# Altium footprint library DISCRETE_T1.PcbLib: 293 footprints (part 6 of 19)
Each footprint in its own frame and in the unit in brackets; x right, y up, seen from the top. Pads: shape width x height; smd on the part's side, far side on the other; paste and mask are expansions set on the pad; w line width, h text height; cw(c..) or ccw(c..) is an arc to the next point about the centre after c.
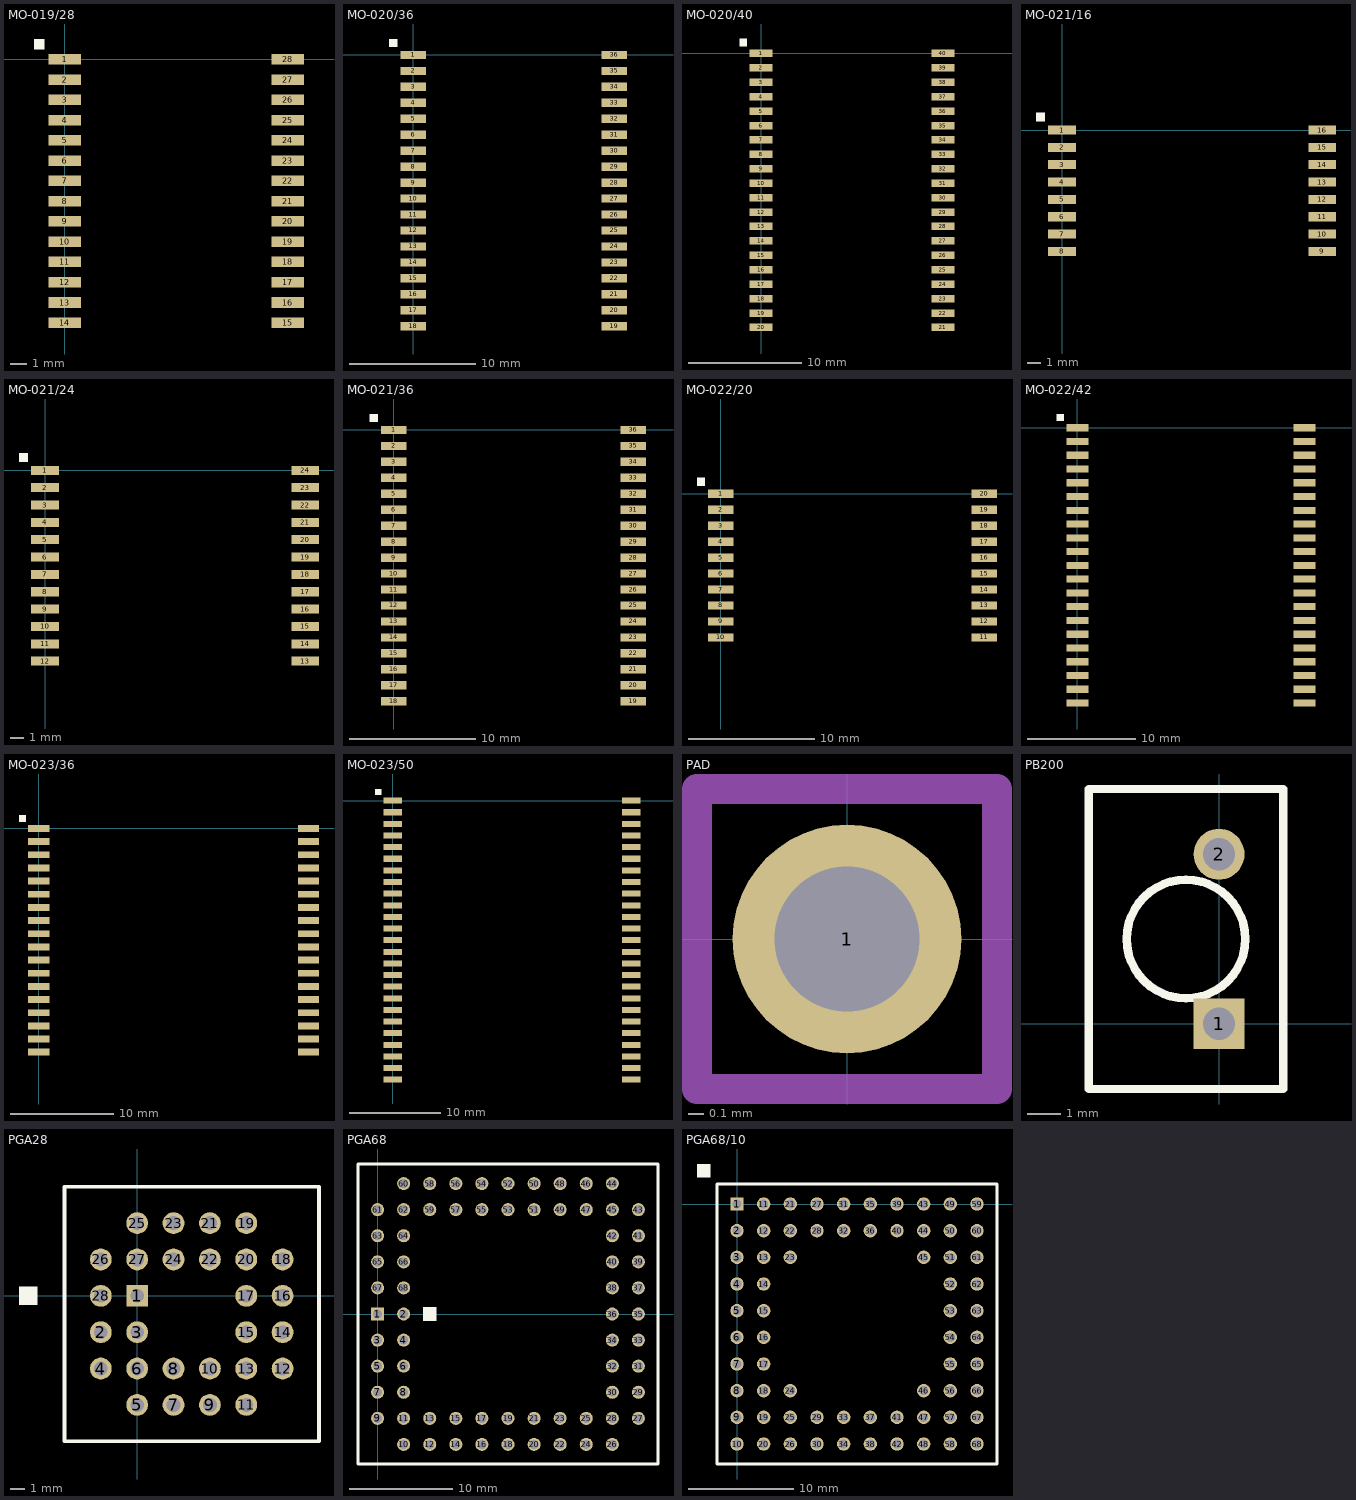
[diagram p5: the footprints below, top view; thin cyan lines are the x and y axes]

## MO-019/28 [mil]
pads (28):
  rect 80x26 smd: 1(0,0) 2(0,-50) 3(0,-100) 4(0,-150) 5(0,-200) 6(0,-250) 7(0,-300) 8(0,-350) 9(0,-400) 10(0,-450) 11(0,-500) 12(0,-550) 13(0,-600) 14(0,-650) 15(550,-650) 16(550,-600) 17(550,-550) 18(550,-500) 19(550,-450) 20(550,-400) 21(550,-350) 22(550,-300) 23(550,-250) 24(550,-200) 25(550,-150) 26(550,-100) 27(550,-50) 28(550,0)
Top Overlay:
  region: -75,25 -50,25 -50,50 -75,50

## MO-020/36 [mil]
pads (36):
  rect 80x26 smd: 1(0,0) 2(0,-50) 3(0,-100) 4(0,-150) 5(0,-200) 6(0,-250) 7(0,-300) 8(0,-350) 9(0,-400) 10(0,-450) 11(0,-500) 12(0,-550) 13(0,-600) 14(0,-650) 15(0,-700) 16(0,-750) 17(0,-800) 18(0,-850) 19(630,-850) 20(630,-800) 21(630,-750) 22(630,-700) 23(630,-650) 24(630,-600) 25(630,-550) 26(630,-500) 27(630,-450) 28(630,-400) 29(630,-350) 30(630,-300) 31(630,-250) 32(630,-200) 33(630,-150) 34(630,-100) 35(630,-50) 36(630,0)
Top Overlay:
  region: -75,25 -50,25 -50,50 -75,50

## MO-020/40 [mil]
pads (40):
  rect 80x26 smd: 1(0,0) 2(0,-50) 3(0,-100) 4(0,-150) 5(0,-200) 6(0,-250) 7(0,-300) 8(0,-350) 9(0,-400) 10(0,-450) 11(0,-500) 12(0,-550) 13(0,-600) 14(0,-650) 15(0,-700) 16(0,-750) 17(0,-800) 18(0,-850) 19(0,-900) 20(0,-950) 21(630,-950) 22(630,-900) 23(630,-850) 24(630,-800) 25(630,-750) 26(630,-700) 27(630,-650) 28(630,-600) 29(630,-550) 30(630,-500) 31(630,-450) 32(630,-400) 33(630,-350) 34(630,-300) 35(630,-250) 36(630,-200) 37(630,-150) 38(630,-100) 39(630,-50) 40(630,0)
Top Overlay:
  region: -75,25 -50,25 -50,50 -75,50

## MO-021/16 [mil]
pads (16):
  rect 80x26 smd: 1(0,0) 2(0,-50) 3(0,-100) 4(0,-150) 5(0,-200) 6(0,-250) 7(0,-300) 8(0,-350) 9(750,-350) 10(750,-300) 11(750,-250) 12(750,-200) 13(750,-150) 14(750,-100) 15(750,-50) 16(750,0)
Top Overlay:
  region: -75,25 -50,25 -50,50 -75,50

## MO-021/24 [mil]
pads (24):
  rect 80x26 smd: 1(0,0) 2(0,-50) 3(0,-100) 4(0,-150) 5(0,-200) 6(0,-250) 7(0,-300) 8(0,-350) 9(0,-400) 10(0,-450) 11(0,-500) 12(0,-550) 13(750,-550) 14(750,-500) 15(750,-450) 16(750,-400) 17(750,-350) 18(750,-300) 19(750,-250) 20(750,-200) 21(750,-150) 22(750,-100) 23(750,-50) 24(750,0)
Top Overlay:
  region: -75,25 -50,25 -50,50 -75,50

## MO-021/36 [mil]
pads (36):
  rect 80x26 smd: 1(0,0) 2(0,-50) 3(0,-100) 4(0,-150) 5(0,-200) 6(0,-250) 7(0,-300) 8(0,-350) 9(0,-400) 10(0,-450) 11(0,-500) 12(0,-550) 13(0,-600) 14(0,-650) 15(0,-700) 16(0,-750) 17(0,-800) 18(0,-850) 19(750,-850) 20(750,-800) 21(750,-750) 22(750,-700) 23(750,-650) 24(750,-600) 25(750,-550) 26(750,-500) 27(750,-450) 28(750,-400) 29(750,-350) 30(750,-300) 31(750,-250) 32(750,-200) 33(750,-150) 34(750,-100) 35(750,-50) 36(750,0)
Top Overlay:
  region: -75,25 -50,25 -50,50 -75,50

## MO-022/20 [mil]
pads (20):
  rect 80x26 smd: 1(0,0) 2(0,-50) 3(0,-100) 4(0,-150) 5(0,-200) 6(0,-250) 7(0,-300) 8(0,-350) 9(0,-400) 10(0,-450) 11(825,-450) 12(825,-400) 13(825,-350) 14(825,-300) 15(825,-250) 16(825,-200) 17(825,-150) 18(825,-100) 19(825,-50) 20(825,0)
Top Overlay:
  region: -75,25 -50,25 -50,50 -75,50

## MO-022/42 [mil]
pads (42):
  rect 80x26 smd: 1(0,0) 2(0,-50) 3(0,-100) 4(0,-150) 5(0,-200) 6(0,-250) 7(0,-300) 8(0,-350) 9(0,-400) 10(0,-450) 11(0,-500) 12(0,-550) 13(0,-600) 14(0,-650) 15(0,-700) 16(0,-750) 17(0,-800) 18(0,-850) 19(0,-900) 20(0,-950) 21(0,-1000) 22(825,-1000) 23(825,-950) 24(825,-900) 25(825,-850) 26(825,-800) 27(825,-750) 28(825,-700) 29(825,-650) 30(825,-600) 31(825,-550) 32(825,-500) 33(825,-450) 34(825,-400) 35(825,-350) 36(825,-300) 37(825,-250) 38(825,-200) 39(825,-150) 40(825,-100) 41(825,-50) 42(825,0)
Top Overlay:
  region: -75,25 -50,25 -50,50 -75,50

## MO-023/36 [mil]
pads (36):
  rect 80x26 smd: 1(0,0) 2(0,-50) 3(0,-100) 4(0,-150) 5(0,-200) 6(0,-250) 7(0,-300) 8(0,-350) 9(0,-400) 10(0,-450) 11(0,-500) 12(0,-550) 13(0,-600) 14(0,-650) 15(0,-700) 16(0,-750) 17(0,-800) 18(0,-850) 19(1025,-850) 20(1025,-800) 21(1025,-750) 22(1025,-700) 23(1025,-650) 24(1025,-600) 25(1025,-550) 26(1025,-500) 27(1025,-450) 28(1025,-400) 29(1025,-350) 30(1025,-300) 31(1025,-250) 32(1025,-200) 33(1025,-150) 34(1025,-100) 35(1025,-50) 36(1025,0)
Top Overlay:
  region: -75,25 -50,25 -50,50 -75,50

## MO-023/50 [mil]
pads (50):
  rect 80x26 smd: 1(0,0) 2(0,-50) 3(0,-100) 4(0,-150) 5(0,-200) 6(0,-250) 7(0,-300) 8(0,-350) 9(0,-400) 10(0,-450) 11(0,-500) 12(0,-550) 13(0,-600) 14(0,-650) 15(0,-700) 16(0,-750) 17(0,-800) 18(0,-850) 19(0,-900) 20(0,-950) 21(0,-1000) 22(0,-1050) 23(0,-1100) 24(0,-1150) 25(0,-1200) 26(1025,-1200) 27(1025,-1150) 28(1025,-1100) 29(1025,-1050) 30(1025,-1000) 31(1025,-950) 32(1025,-900) 33(1025,-850) 34(1025,-800) 35(1025,-750) 36(1025,-700) 37(1025,-650) 38(1025,-600) 39(1025,-550) 40(1025,-500) 41(1025,-450) 42(1025,-400) 43(1025,-350) 44(1025,-300) 45(1025,-250) 46(1025,-200) 47(1025,-150) 48(1025,-100) 49(1025,-50) 50(1025,0)
Top Overlay:
  region: -75,25 -50,25 -50,50 -75,50

## PAD [mil]
pads (1):
  round 60 hole 38: 1(0,0)
Mechanical 1:
  lines w7.87: -39.37,-39.37 39.37,-39.37 39.37,39.37 -39.37,39.37 -39.37,-39.37

## PB200 [mil]
pads (2):
  rect 60x60 hole 38: 1(0,0)
  round 60 hole 38: 2(0,200)
Top Overlay:
  circle w10: c-39,100 r70
  lines w10: -154,-77 -154,277 76,277 76,-77 -154,-77

## PCBComponent_1 [mil]

## PGA28 [mil]
pads (28):
  rect 60x60 hole 38: 1(0,0)
  round 60 hole 38: 2(-100,-100) 3(0,-100) 4(-100,-200) 5(0,-300) 6(0,-200) 7(100,-300) 8(100,-200) 9(200,-300) 10(200,-200) 11(300,-300) 12(400,-200) 13(300,-200) 14(400,-100) 15(300,-100) 16(400,0) 17(300,0) 18(400,100) 19(300,200) 20(300,100) 21(200,200) 22(200,100) 23(100,200) 24(100,100) 25(0,200) 26(-100,100) 27(0,100) 28(-100,0)
Top Overlay:
  region: -325,-25 -275,-25 -275,25 -325,25
  lines w10: -200,-400 500,-400 500,300 -200,300 -200,-400

## PGA68 [mil]
pads (68):
  rect 50x50 hole 34: 1(0,0)
  round 50 hole 34: 2(100,0) 3(0,-100) 4(100,-100) 5(0,-200) 6(100,-200) 7(0,-300) 8(100,-300) 9(0,-400) 10(100,-500) 11(100,-400) 12(200,-500) 13(200,-400) 14(300,-500) 15(300,-400) 16(400,-500) 17(400,-400) 18(500,-500) 19(500,-400) 20(600,-500) 21(600,-400) 22(700,-500) 23(700,-400) 24(800,-500) 25(800,-400) 26(900,-500) 27(1000,-400) 28(900,-400) 29(1000,-300) 30(900,-300) 31(1000,-200) 32(900,-200) 33(1000,-100) 34(900,-100) 35(1000,0) 36(900,0) 37(1000,100) 38(900,100) 39(1000,200) 40(900,200) 41(1000,300) 42(900,300) 43(1000,400) 44(900,500) 45(900,400) 46(800,500) 47(800,400) 48(700,500) 49(700,400) 50(600,500) 51(600,400) 52(500,500) 53(500,400) 54(400,500) 55(400,400) 56(300,500) 57(300,400) 58(200,500) 59(200,400) 60(100,500) 61(0,400) 62(100,400) 63(0,300) 64(100,300) 65(0,200) 66(100,200) 67(0,100) 68(100,100)
Top Overlay:
  region: 175,-25 225,-25 225,25 175,25
  lines w10: -75,-575 1075,-575 1075,575 -75,575 -75,-575

## PGA68/10 [mil]
pads (68):
  rect 50x50 hole 34: 1(0,0)
  round 50 hole 34: 2(0,-100) 3(0,-200) 4(0,-300) 5(0,-400) 6(0,-500) 7(0,-600) 8(0,-700) 9(0,-800) 10(0,-900) 11(100,0) 12(100,-100) 13(100,-200) 14(100,-300) 15(100,-400) 16(100,-500) 17(100,-600) 18(100,-700) 19(100,-800) 20(100,-900) 21(200,0) 22(200,-100) 23(200,-200) 24(200,-700) 25(200,-800) 26(200,-900) 27(300,0) 28(300,-100) 29(300,-800) 30(300,-900) 31(400,0) 32(400,-100) 33(400,-800) 34(400,-900) 35(500,0) 36(500,-100) 37(500,-800) 38(500,-900) 39(600,0) 40(600,-100) 41(600,-800) 42(600,-900) 43(700,0) 44(700,-100) 45(700,-200) 46(700,-700) 47(700,-800) 48(700,-900) 49(800,0) 50(800,-100) 51(800,-200) 52(800,-300) 53(800,-400) 54(800,-500) 55(800,-600) 56(800,-700) 57(800,-800) 58(800,-900) 59(900,0) 60(900,-100) 61(900,-200) 62(900,-300) 63(900,-400) 64(900,-500) 65(900,-600) 66(900,-700) 67(900,-800) 68(900,-900)
Top Overlay:
  region: -150,100 -100,100 -100,150 -150,150
  lines w10: -75,-975 -75,75 975,75 975,-975 -75,-975